# Altium schematic symbol library ALM2403-Q1.SchLib: 1 symbol
Pins are listed as number, name and electrical type; pins without a type are passive.

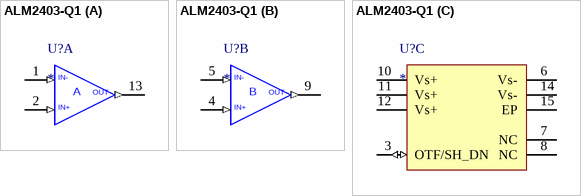
[diagram p0: symbol ALM2403-Q1]

## ALM2403-Q1
designator U?
part A pins: 1 -IN A (in), 2 +IN A (in), 13 OUT A (out)
part B pins: 4 +IN B (in), 5 -IN B (in), 9 OUT B (out)
part C pins: 3 OTF/SH_DN (io), 6 Vs- (power), 7 NC, 8 NC, 10 Vs+ (power), 11 Vs+ (power), 12 Vs+ (power), 14 Vs- (power), 15 EP
part A text: IN-; OUT; A; IN+
part B text: IN-; OUT; B; IN+